# EAGLE library part XC9572XLVQG64 (library xilinx_xc95XXXxl)
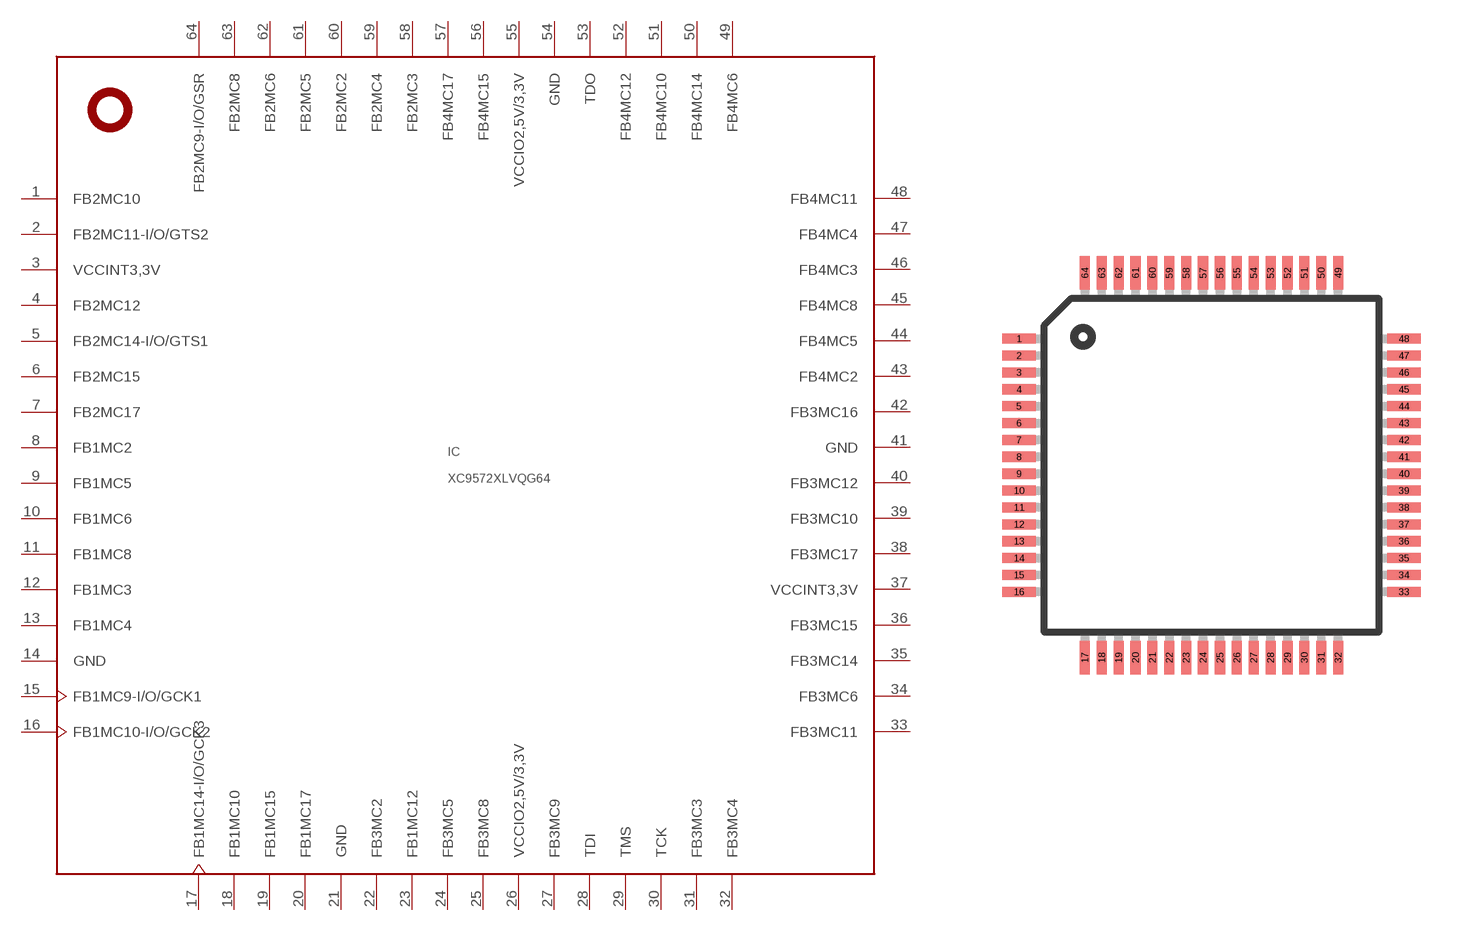
[diagram p1: symbol with the pads of VQFP64; footprint VQFP64]

Designator prefix IC

## XC9572XLVQG64  [VQFP64]
1  FB2MC10
2  FB2MC11-I/O/GTS2
3  VCCINT3,3V  pwr
4  FB2MC12
5  FB2MC14-I/O/GTS1
6  FB2MC15
7  FB2MC17
8  FB1MC2
9  FB1MC5
10  FB1MC6
11  FB1MC8
12  FB1MC3
13  FB1MC4
14  GND  sup
15  FB1MC9-I/O/GCK1
16  FB1MC10-I/O/GCK2
17  FB1MC14-I/O/GCK3
18  FB1MC10
19  FB1MC15
20  FB1MC17
21  GND  sup
22  FB3MC2
23  FB1MC12
24  FB3MC5
25  FB3MC8
26  VCCIO2,5V/3,3V  pwr
27  FB3MC9
28  TDI
29  TMS
30  TCK
31  FB3MC3
32  FB3MC4
33  FB3MC11
34  FB3MC6
35  FB3MC14
36  FB3MC15
37  VCCINT3,3V  pwr
38  FB3MC17
39  FB3MC10
40  FB3MC12
41  GND  sup
42  FB3MC16
43  FB4MC2
44  FB4MC5
45  FB4MC8
46  FB4MC3
47  FB4MC4
48  FB4MC11
49  FB4MC6
50  FB4MC14
51  FB4MC10
52  FB4MC12
53  TDO
54  GND  sup
55  VCCIO2,5V/3,3V  pwr
56  FB4MC15
57  FB4MC17
58  FB2MC3
59  FB2MC4
60  FB2MC2
61  FB2MC5
62  FB2MC6
63  FB2MC8
64  FB2MC9-I/O/GSR

## Footprint VQFP64 (pad centres in mm)
smd 1 x 0.3: 1 -5.7,3.75; 2 -5.7,3.25; 3 -5.7,2.75; 4 -5.7,2.25; 5 -5.7,1.75; 6 -5.7,1.25; 7 -5.7,0.75; 8 -5.7,0.25; 9 -5.7,-0.25; 10 -5.7,-0.75; 11 -5.7,-1.25; 12 -5.7,-1.75; 13 -5.7,-2.25; 14 -5.7,-2.75; 15 -5.7,-3.25; 16 -5.7,-3.75; 33 5.7,-3.75; 34 5.7,-3.25; 35 5.7,-2.75; 36 5.7,-2.25; 37 5.7,-1.75; 38 5.7,-1.25; 39 5.7,-0.75; 40 5.7,-0.25; 41 5.7,0.25; 42 5.7,0.75; 43 5.7,1.25; 44 5.7,1.75; 45 5.7,2.25; 46 5.7,2.75; 47 5.7,3.25; 48 5.7,3.75
smd 0.3 x 1: 17 -3.75,-5.7; 18 -3.25,-5.7; 19 -2.75,-5.7; 20 -2.25,-5.7; 21 -1.75,-5.7; 22 -1.25,-5.7; 23 -0.75,-5.7; 24 -0.25,-5.7; 25 0.25,-5.7; 26 0.75,-5.7; 27 1.25,-5.7; 28 1.75,-5.7; 29 2.25,-5.7; 30 2.75,-5.7; 31 3.25,-5.7; 32 3.75,-5.7; 49 3.75,5.7; 50 3.25,5.7; 51 2.75,5.7; 52 2.25,5.7; 53 1.75,5.7; 54 1.25,5.7; 55 0.75,5.7; 56 0.25,5.7; 57 -0.25,5.7; 58 -0.75,5.7; 59 -1.25,5.7; 60 -1.75,5.7; 61 -2.25,5.7; 62 -2.75,5.7; 63 -3.25,5.7; 64 -3.75,5.7